# Altium schematic symbol library TDH5(3)01D485H.SchLib: 1 symbol
Pins are listed as number, name and electrical type; pins without a type are passive.

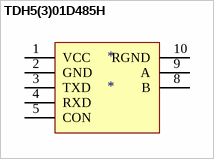
[diagram p0: symbol TDH5(3)01D485H]

## TDH5(3)01D485H
designator *
pins: 1 VCC, 2 GND, 3 TXD, 4 RXD, 5 CON, 8 B, 9 A, 10 RGND